# EAGLE library part OPA_LM386 (library akita)
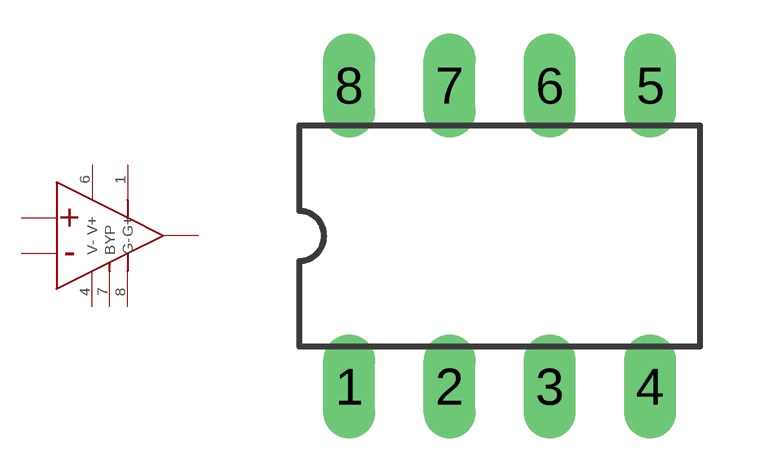
[diagram p35: symbol with the pads of DIL08; footprint DIL08]

Designator prefix -

## OPA_LM386DIP8  [DIL08]
1  G+
2  I-
3  I+
4  V-
5  VO
6  V+
7  BYP
8  G-

## Footprint DIL08 (pad centres in mm)
Dual In Line
drill 0.813 long: 1 -3.81,-3.81; 2 -1.27,-3.81; 3 1.27,-3.81; 4 3.81,-3.81; 5 3.81,3.81; 6 1.27,3.81; 7 -1.27,3.81; 8 -3.81,3.81